# Altium footprint library inductor-neosid.PCBLIB: 99 footprints (part 2 of 7)
Each footprint in its own frame and in the unit in brackets; x right, y up, seen from the top. Pads: shape width x height; smd on the part's side, far side on the other; paste and mask are expansions set on the pad; w line width, h text height; cw(c..) or ccw(c..) is an arc to the next point about the centre after c.
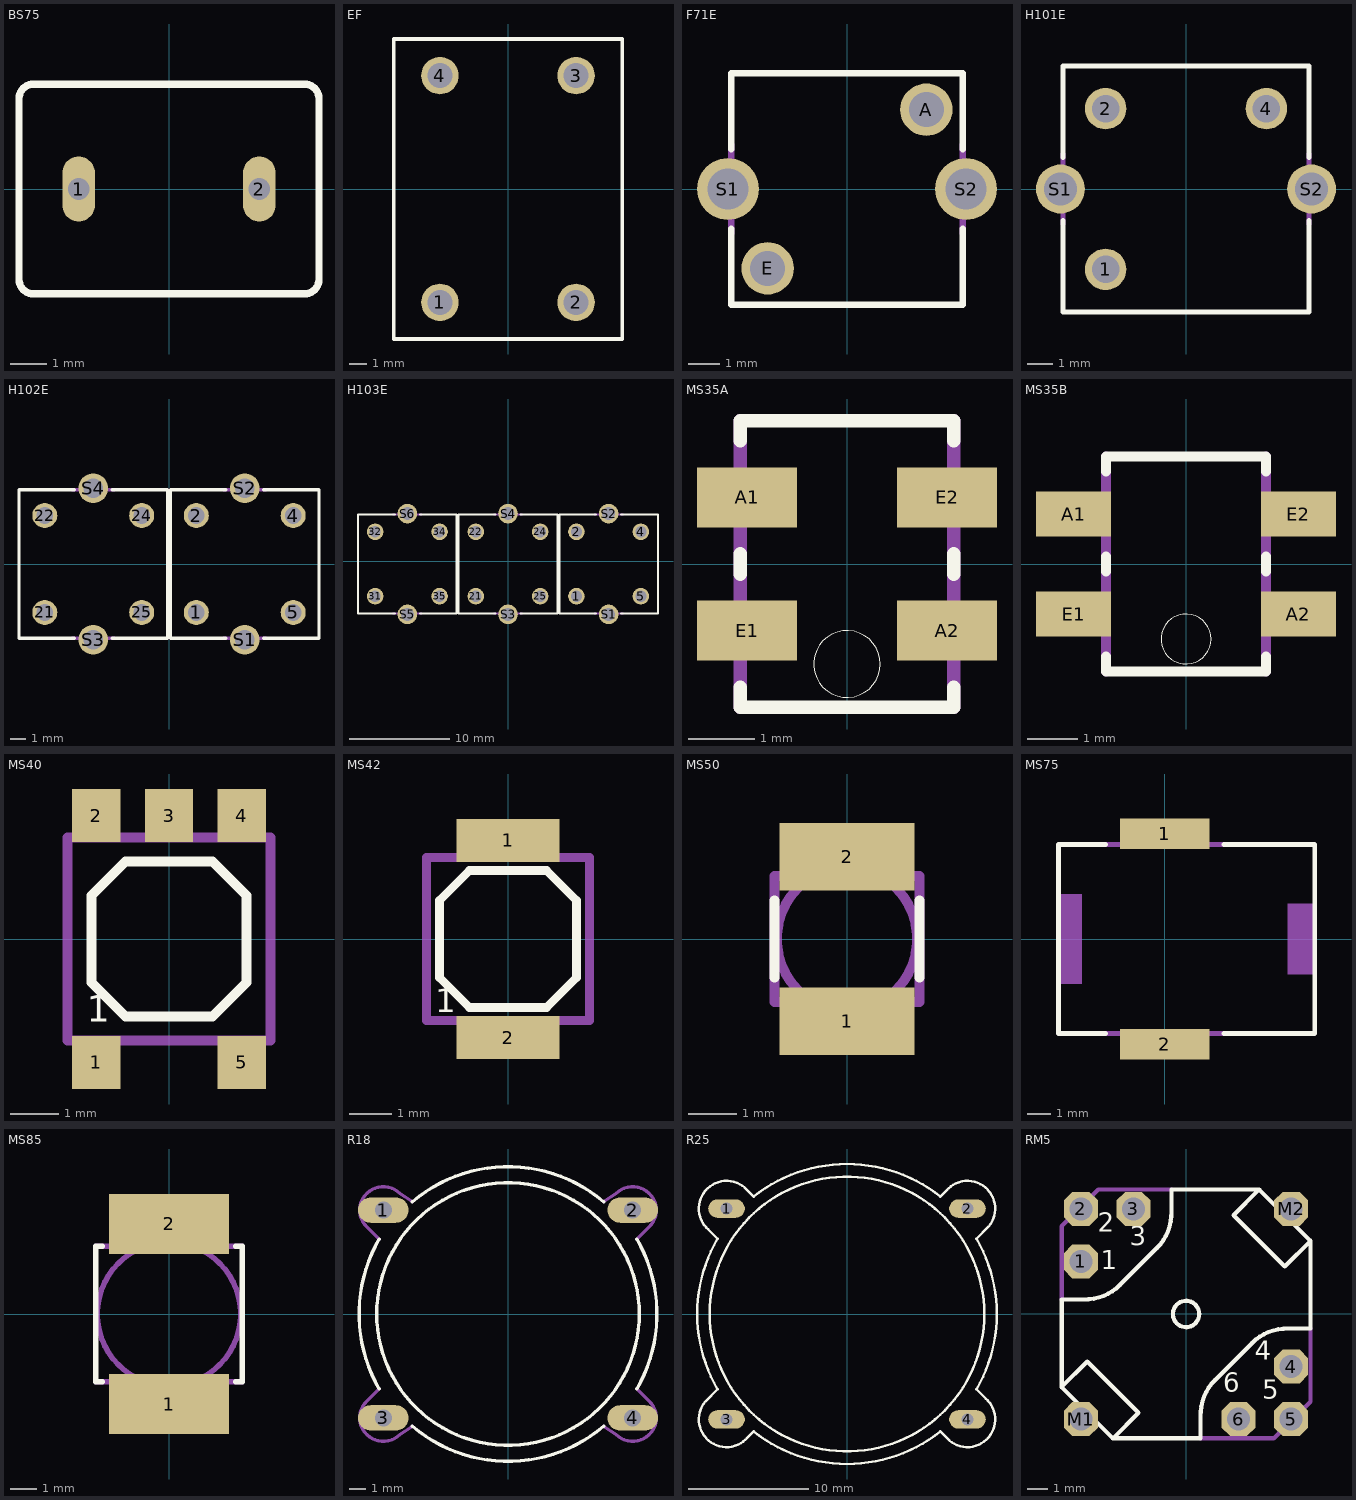
[diagram p1: the footprints below, top view; thin cyan lines are the x and y axes]

## BS75 [mm]
pads (2):
  oval 0.9x1.8 hole 0.6: 1(-2.5,0) 2(2.5,0)
Top Overlay:
  lines w0.203: -4.15,-2.5 -4.15,2.5 cw(c-3.75,2.5) -3.75,2.9 3.75,2.9 cw(c3.75,2.5) 4.15,2.5 4.15,-2.5 cw(c3.75,-2.5) 3.75,-2.9 -3.75,-2.9 cw(c-3.75,-2.5) -4.15,-2.5

## EF [mm]
pads (4):
  round 2.1 hole 1.4: 1(-3.81,-6.35) 2(3.81,-6.35) 3(3.81,6.35) 4(-3.81,6.35)
Top Overlay:
  lines w0.203: -6.4,-8.4 6.4,-8.4 6.4,8.4 -6.4,8.4 -6.4,-8.4

## F71E [mm]
pads (4):
  round 1.65 hole 1.1: A(2.5,2.5) E(-2.5,-2.5)
  round 1.95 hole 1.3: S1(-3.75,0) S2(3.75,0)
Top Overlay:
  lines w0.203: -3.65,-1.25 -3.65,-3.65 3.65,-3.65 3.65,-1.25 ; -3.65,1.25 -3.65,3.65 3.65,3.65 3.65,1.25
Mechanical 16:
  lines w0.203: -3.65,-1.4 -3.65,1.4 ; 3.65,-1.4 3.65,1.4

## H101E [mm]
pads (5):
  round 1.65 hole 1.1: 1(-3.2,-3.2) 2(-3.2,3.2) 4(3.2,3.2)
  round 1.95 hole 1.3: S1(-5,0) S2(5,0)
Top Overlay:
  lines w0.203: -4.9,-1.25 -4.9,-4.9 4.9,-4.9 4.9,-1.25 ; -4.9,1.25 -4.9,4.9 4.9,4.9 4.9,1.25
Mechanical 16:
  lines w0.203: -4.9,-1.4 -4.9,1.4 ; 4.9,-1.4 4.9,1.4

## H102E [mm]
pads (12):
  round 1.65 hole 1.1: 1(1.8,-3.2) 2(1.8,3.2) 4(8.2,3.2) 5(8.2,-3.2) 21(-8.2,-3.2) 22(-8.2,3.2) 24(-1.8,3.2) 25(-1.8,-3.2)
  round 1.95 hole 1.3: S1(5,-5) S2(5,5) S3(-5,-5) S4(-5,5)
Top Overlay:
  lines w0.203: -6.25,-4.9 -9.9,-4.9 -9.9,4.9 -6.25,4.9 ; -3.75,-4.9 -0.1,-4.9 -0.1,4.9 -3.75,4.9 ; 3.75,-4.9 0.1,-4.9 0.1,4.9 3.75,4.9 ; 6.25,-4.9 9.9,-4.9 9.9,4.9 6.25,4.9
Mechanical 16:
  lines w0.203: -6.4,-4.9 -3.6,-4.9 ; -6.4,4.9 -3.6,4.9 ; 3.6,-4.9 6.4,-4.9 ; 3.6,4.9 6.4,4.9

## H103E [mm]
pads (18):
  round 1.65 hole 1.1: 1(6.8,-3.45) 2(6.8,2.95) 4(13.2,2.95) 5(13.2,-3.45) 21(-3.2,-3.45) 22(-3.2,2.95) 24(3.2,2.95) 25(3.2,-3.45) 31(-13.2,-3.45) 32(-13.2,2.95) 34(-6.8,2.95) 35(-6.8,-3.45)
  round 1.95 hole 1.3: S1(10,-5.25) S2(10,4.75) S3(0,-5.25) S4(0,4.75) S5(-10,-5.25) S6(-10,4.75)
Top Overlay:
  lines w0.203: -11.25,-5.15 -14.9,-5.15 -14.9,4.65 -11.25,4.65 ; -8.75,-5.15 -5.1,-5.15 -5.1,4.65 -8.75,4.65 ; -1.25,-5.15 -4.9,-5.15 -4.9,4.65 -1.25,4.65 ; 1.25,-5.15 4.9,-5.15 4.9,4.65 1.25,4.65 ; 8.75,-5.15 5.1,-5.15 5.1,4.65 8.75,4.65 ; 11.25,-5.15 14.9,-5.15 14.9,4.65 11.25,4.65
Mechanical 16:
  lines w0.203: -11.4,-5.15 -8.6,-5.15 ; -11.4,4.65 -8.6,4.65 ; -1.4,-5.15 1.4,-5.15 ; -1.4,4.65 1.4,4.65 ; 8.6,-5.15 11.4,-5.15 ; 8.6,4.65 11.4,4.65

## MS35A [mm]
pads (4):
  rect 1.5x0.9 smd: A1(-1.5,1) A2(1.5,-1) E1(-1.5,-1) E2(1.5,1)
Top Overlay:
  circle w0: c0,-1.5 r0.5
  lines w0.203: -1.6,-1.85 -1.6,-2.15 1.6,-2.15 1.6,-1.85 ; -1.6,-0.15 -1.6,0.15 ; -1.6,1.85 -1.6,2.15 1.6,2.15 1.6,1.85 ; 1.6,-0.15 1.6,0.15
Mechanical 16:
  lines w0.203: -1.6,-2.15 -1.6,2.15 ; 1.6,-2.15 1.6,2.15

## MS35B [mm]
pads (4):
  rect 1.5x0.9 smd: A1(-2.25,1) A2(2.25,-1) E1(-2.25,-1) E2(2.25,1)
Top Overlay:
  circle w0: c0,-1.5 r0.5
  lines w0.203: -1.6,-1.85 -1.6,-2.15 1.6,-2.15 1.6,-1.85 ; -1.6,-0.15 -1.6,0.15 ; -1.6,1.85 -1.6,2.15 1.6,2.15 1.6,1.85 ; 1.6,-0.15 1.6,0.15
Mechanical 16:
  rectangle: -2.5,0.6 -1.6,1.4
  rectangle: -2.5,-1.4 -1.6,-0.6
  rectangle: 1.6,-1.4 2.5,-0.6
  rectangle: 1.6,0.6 2.5,1.4
  lines w0.203: -1.6,-2.15 -1.6,2.15 ; 1.6,-2.15 1.6,2.15

## MS40 [mm]
pads (5):
  rect 1x1.1 smd: 1(-1.5,-2.55) 2(-1.5,2.55) 3(0,2.55) 4(1.5,2.55) 5(1.5,-2.55)
Top Overlay:
  lines w0.203: -1.6,-0.9 -0.9,-1.6 0.9,-1.6 1.6,-0.9 1.6,0.9 0.9,1.6 -0.9,1.6 -1.6,0.9 -1.6,-0.9
  text "1" at -1.7,-1.9 h0.94
Mechanical 16:
  rectangle: -0.3,2.2 0.3,3
  rectangle: -1.8,2.2 -1.2,3
  rectangle: 1.2,2.2 1.8,3
  rectangle: 1.2,-3 1.8,-2.2
  rectangle: -1.8,-3 -1.2,-2.2
  lines w0.203: -2.1,-2.1 2.1,-2.1 2.1,2.1 -2.1,2.1 -2.1,-2.1

## MS42 [mm]
pads (2):
  rect 2.4x1 smd: 1(0,2.3) 2(0,-2.3)
Top Overlay:
  lines w0.203: -1.6,-0.9 -0.9,-1.6 0.9,-1.6 1.6,-0.9 1.6,0.9 0.9,1.6 -0.9,1.6 -1.6,0.9 -1.6,-0.9
  text "1" at -1.7,-1.9 h0.94
Mechanical 16:
  rectangle: -0.55,1.95 0.55,2.7
  rectangle: -0.55,-2.7 0.55,-1.95
  lines w0.203: -1.9,-1.9 1.9,-1.9 1.9,1.9 -1.9,1.9 -1.9,-1.9

## MS50 [mm]
pads (2):
  rect 2.8x1.4 smd: 1(0,-1.7) 2(0,1.7)
Top Overlay:
  lines w0.203: -1.5,-0.8 -1.5,0.8 ; 1.5,-0.8 1.5,0.8
Mechanical 16:
  lines w0.203: -0.7,-1.4 -0.9,-2.3 0.9,-2.3 0.7,-1.4 ; -0.7,1.4 -0.9,2.3 0.9,2.3 0.7,1.4 ; -0.7,-1.3 -1.5,-1.3 -1.5,1.3 -0.7,1.3 ; -0.7,-1.3 0.7,-1.3 ; -0.7,-1.3 cw(c0.05,0) -0.7,1.3 ; -0.7,1.3 0.7,1.3 ; 0.7,-1.3 1.5,-1.3 1.5,1.3 0.7,1.3 ; 0.7,-1.3 ccw(c-0.05,0) 0.7,1.3

## MS75 [mm]
pads (2):
  rect 3.8x1.3 smd: 1(0,4.45) 2(0,-4.45)
Top Overlay:
  lines w0.203: -2.5,-4 -4.5,-4 -4.5,4 -2.5,4 ; 2.5,-4 6.35,-4 6.35,4 2.5,4
Mechanical 6:
  rectangle: -4.6,-1.9 -3.5,1.9
  rectangle: 5.2,-1.5 6.4,1.5
Mechanical 16:
  lines w0.203: -2.5,-4 2.5,-4 ; -2.5,4 2.5,4

## MS85 [mm]
pads (2):
  rect 4.5x2.25 smd: 1(0,-3.383) 2(0,3.383)
Top Overlay:
  lines w0.203: -2.5,-2.55 -2.75,-2.55 -2.75,2.55 -2.5,2.55 ; 2.5,-2.55 2.75,-2.55 2.75,2.55 2.5,2.55
Mechanical 16:
  lines w0.203: -2.75,-2.55 2.75,-2.55 ; -2.75,2.55 2.75,2.55 ; -1,-2.5 cw(c0,0) -1,2.5 ; -0.7,-2.65 -0.9,-4.3 0.9,-4.3 0.7,-2.65 ; -0.7,2.65 -0.9,4.3 0.9,4.3 0.7,2.65 ; 1,-2.5 ccw(c0,0) 1,2.5

## R18 [mil]
pads (4):
  oval 120x60 hole 40: 1(-295.28,246.06) 2(295.28,246.06) 3(-295.28,-246.06) 4(295.28,-246.06)
Top Overlay:
  circle w8: c0,0 r311.02
  lines w8: -305.12,-177.17 cw(c0.01,0) -305.12,177.17 ; -226.38,-265.75 ccw(c0,0) 226.38,-265.75 ; -226.38,265.75 cw(c0,0) 226.38,265.75 ; 305.12,-177.17 ccw(c-0.01,0) 305.12,177.17
Mechanical 16:
  lines w8: -305.12,-177.17 -334.65,-206.69 ccw(c-295.28,-246.06) -255.91,-285.43 -226.38,-265.75 ; -305.12,177.17 -334.65,206.69 cw(c-295.28,246.06) -255.91,285.43 -226.38,265.75 ; 226.38,-265.75 255.91,-285.43 ccw(c295.28,-246.06) 334.65,-206.69 305.12,-177.17 ; 226.38,265.75 255.91,285.43 cw(c295.28,246.06) 334.65,206.69 305.12,177.17

## R25 [mil]
pads (4):
  oval 120x60 hole 40: 1(-393.7,344.49) 2(393.7,344.49) 3(-393.7,-344.49) 4(393.7,-344.49)
Top Overlay:
  circle w8: c0,0 r448.82
  lines w8: -462.6,-285.43 ccw(c-393.7,-344.49) -324.8,-403.54 -305.12,-383.86 ccw(c0,0) 305.12,-383.86 334.65,-413.39 ccw(c393.7,-344.49) 452.76,-275.59 423.23,-246.06 ccw(c0.01,0) 423.23,246.06 462.6,285.43 ccw(c393.7,344.49) 324.8,403.54 305.12,383.86 ccw(c0,0) -305.12,383.86 -334.65,413.39 ccw(c-393.7,344.49) -452.76,275.59 -423.23,246.06 ccw(c-0.01,0) -423.23,-246.06 -462.6,-285.43

## RM5 [mm]
pads (8):
  oct 1.65x1.65 hole 1.1: 1(-5.08,2.54) 2(-5.08,5.08) 3(-2.54,5.08) 4(5.08,-2.54) 5(5.08,-5.08) 6(2.54,-5.08) M1(-5.08,-5.08) M2(5.08,5.08)
Top Overlay:
  circle w0.203: c0,0 r0.637
  lines w0.203: 3.182,-1.414 3.182,-1.414 ; 4.95,-0.707 ccw(c4.874,-3.081) 3.182,-1.414 ; 4.95,-0.707 6.01,-0.707 6.01,3.536 ; -6.01,-3.536 -6.01,0.707 -4.95,0.707 ccw(c-4.874,3.081) -3.182,1.414 -1.414,3.182 ccw(c-3.081,4.874) -0.707,4.95 -0.707,6.01 3.536,6.01 ; -6.01,-3.536 -3.536,-6.01 ; -6.01,-3.536 -4.773,-2.298 -2.298,-4.773 -3.536,-6.01 ; -3.536,-6.01 0.707,-6.01 0.707,-4.95 cw(c3.081,-4.874) 1.414,-3.182 3.182,-1.414 ; 3.536,6.01 6.01,3.536 ; 3.536,6.01 2.298,4.773 4.773,2.298 6.01,3.536
  text "1" at -4.121,1.845 h1.57
  text "2" at -4.27,3.662 h1.57
  text "3" at -2.707,3.005 h1.57
  text "4" at 3.331,-2.525 h1.57
  text "5" at 3.685,-4.419 h1.57
  text "6" at 1.79,-4.066 h1.57
Mechanical 16:
  circle w0.203: c-5.08,2.54 r0.354
  circle w0.203: c-2.54,5.08 r0.354
  circle w0.203: c2.54,-5.08 r0.354
  circle w0.203: c5.08,-2.54 r0.354
  lines w0.203: -6.01,0.707 -6.01,4.243 -5.48,4.773 ccw(c-5.126,5.126) -4.773,5.48 ; -0.707,6.01 -4.243,6.01 -4.773,5.48 ; 0.707,-6.01 4.243,-6.01 4.773,-5.48 cw(c5.126,-5.126) 5.48,-4.773 ; 6.01,-0.707 6.01,-4.243 5.48,-4.773 ; -4.773,5.48 -4.773,5.48 ; 5.48,-4.773 5.48,-4.773